# Altium footprint library IP5328P BMS.PcbLib: 19 footprints (part 1 of 2)
Each footprint in its own frame and in the unit in brackets; x right, y up, seen from the top. Pads: shape width x height; smd on the part's side, far side on the other; paste and mask are expansions set on the pad; w line width, h text height; cw(c..) or ccw(c..) is an arc to the next point about the centre after c.
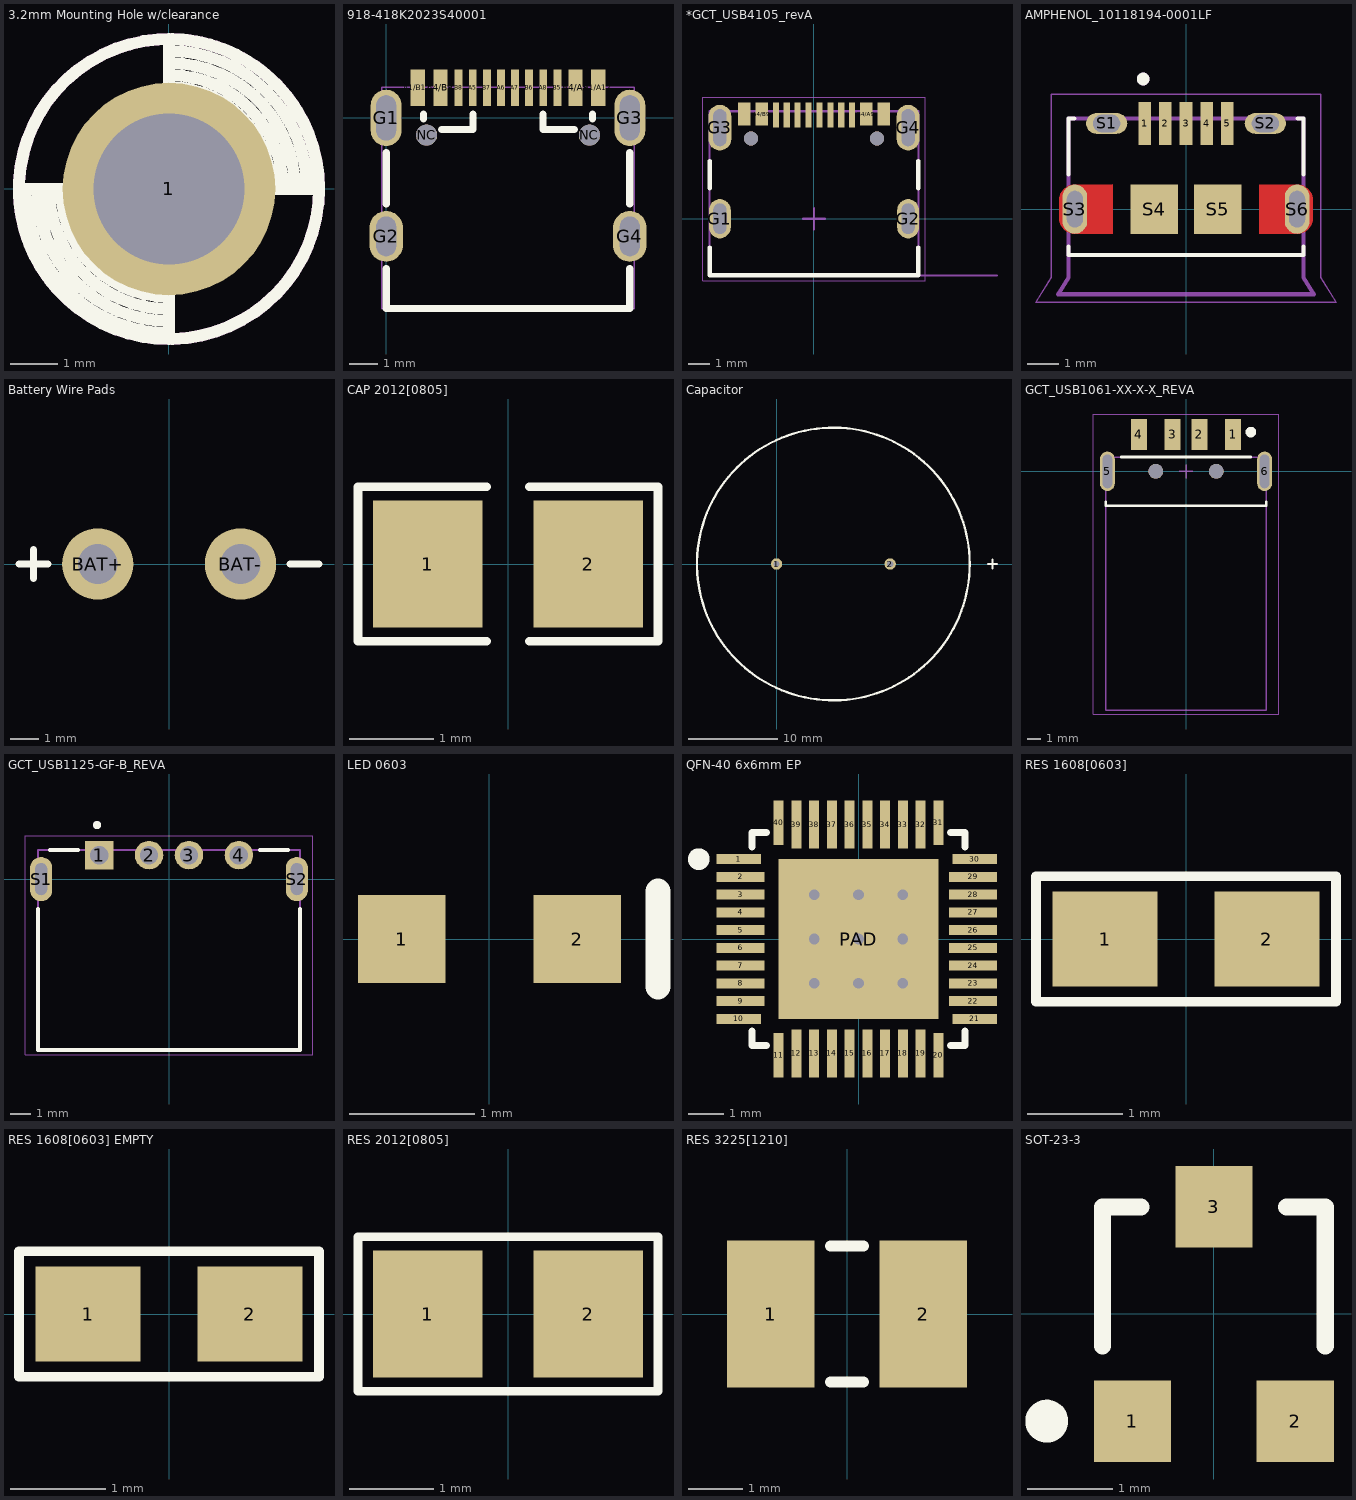
[diagram p0: the footprints below, top view; thin cyan lines are the x and y axes]

## 3.2mm Mounting Hole w/clearance [mm] "3.2mm mounting hole with 125mil clearance"
pads (1):
  round 4.5 hole 3.2: 1(0,0)
Top Overlay:
  circle w0.254: c0,0 r3.175
  lines w0.254: -3.048,0 ccw(c0,0) 0,-3.048 ; -2.794,0 ccw(c0,0) 0,-2.794 ; -2.54,0 ccw(c0,0) 0,-2.54 ; -2.286,0 ccw(c0,0) 0,-2.286 ; 0,2.159 cw(c0,0) 2.159,0 ; 0,2.413 cw(c0,0) 2.413,0 ; 0,2.667 cw(c0,0) 2.667,0 ; 0,2.921 cw(c0,0) 2.921,0 ; 0,0 3.175,0 ccw(c0,0) 0,3.175 0,0 ; 0,0 0,-3.175 cw(c0,0) -3.175,0 0,0
Bottom Overlay:
  circle w0.254: c0,0 r3.175
  lines w0.254: -3.048,0 ccw(c0,0) 0,-3.048 ; -2.794,0 ccw(c0,0) 0,-2.794 ; -2.54,0 ccw(c0,0) 0,-2.54 ; -2.286,0 ccw(c0,0) 0,-2.286 ; 0,2.159 cw(c0,0) 2.159,0 ; 0,2.413 cw(c0,0) 2.413,0 ; 0,2.667 cw(c0,0) 2.667,0 ; 0,2.921 cw(c0,0) 2.921,0 ; 0,0 0,-3.175 cw(c0,0) -3.175,0 0,0 ; 0,0 3.175,0 ccw(c0,0) 0,3.175 0,0
Keep-Out Layer:
  circle w0.254: c0,0 r3.175
  circle w0.254: c0,0 r3.175

## 918-418K2023S40001 [mm]
pads (18):
  rect 0.5x1.3 smd mask+0.051: A1/B12(1.12,1.067) A4/B9(1.92,1.067) B1/A12(7.516,1.067) B4/A9(6.716,1.067)
  rect 0.28x1.3 smd mask+0.051: A5(3.07,1.067) A6(4.07,1.067) A7(4.566,1.067) A8(5.566,1.067) B5(6.066,1.067) B6(5.066,1.067) B7(3.57,1.067) B8(2.57,1.067)
  oval 1.1x2 hole 0.7 slot 1.6 at 90 deg mask+0.051: G1(0,0) G3(8.636,0)
  oval 1.2x1.8 hole 0.7 slot 1.4 at 90 deg mask+0.051: G2(0,-4.2) G4(8.636,-4.2)
  round 0.75 hole 0.75 unplated mask+0: NC(1.43,-0.61) NC(7.206,-0.61)
Top Overlay:
  lines w0.254: 0,-5.339 0,-6.756 4.32,-6.756 ; 0,-3.048 0,-1.23 ; 1.321,-0.032 1.321,0.127 ; 1.961,-0.406 3.068,-0.406 ; 3.079,-0.394 3.079,0.127 ; 4.316,-6.756 8.636,-6.756 8.636,-5.339 ; 5.557,-0.394 5.557,0.127 ; 5.568,-0.406 6.675,-0.406 ; 7.315,-0.032 7.315,0.127 ; 8.636,-3.048 8.636,-1.23
Mechanical 15:
  lines w0.05: -0.152,-6.758 8.788,-6.758 8.788,1.092 -0.152,1.092 -0.152,-6.758

## *GCT_USB4105_revA [mm]
height 3.31
pads (18):
  rect 0.58x1.05 smd mask+0.05: A1/B12(-3.2,4.8) A4/B9(-2.4,4.8) B1/A12(3.2,4.8) B4/A9(2.4,4.8)
  rect 0.28x1.15 smd mask+0.05: A5(-1.25,4.755) A6(-0.25,4.755) A7(0.25,4.755) A8(1.25,4.755) B5(1.75,4.755) B6(0.75,4.755) B7(-0.75,4.755) B8(-1.75,4.755)
  oval 1x1.8 hole 0.6 slot 1.4 at 90 deg: G1(-4.32,0) G2(4.32,0)
  oval 1.05x2.1 hole 0.6 slot 1.7 at 90 deg: G3(-4.32,4.18) G4(4.32,4.18)
  round 0.65 hole 0.65 unplated mask+0: None(-2.89,3.68) None(2.89,3.68)
Top Overlay:
  lines w0.2: -4.79,-1.32 -4.79,-2.6 4.79,-2.6 4.79,-1.32 ; -4.79,1.4 -4.79,2.65 ; 4.79,1.4 4.79,2.65
Mechanical 13:
  lines w0.1: -4.79,-2.6 4.79,-2.6 ; -4.79,-2.6 -4.79,4.93 ; -4.79,-2.6 4.79,-2.6 ; -4.79,-2.6 -4.79,4.93 ; -4.79,4.93 4.79,4.93 ; -4.79,4.93 4.79,4.93 ; 4.79,-2.6 4.79,4.93 ; 4.79,-2.6 4.79,4.93 ; 4.8,-2.6 8.4,-2.6 4.8,-2.6
Mechanical 15:
  lines w0.05: -5.1,-2.85 -5.1,5.58 5.1,5.58 5.1,-2.85 -5.1,-2.85
  lines w0.1: -0.5,0 0.5,0 ; 0,-0.5 0,0.5
3D body "USB4105-15-A-120.stp": height 3.26, standoff -1.2, extent -4.47,-2.54 4.47,5.16

## AMPHENOL_10118194-0001LF [mm]
pads (11):
  rect 0.4x1.35 smd mask+0.05: 1(-1.3,2.7) 2(-0.65,2.7) 3(0,2.7) 4(0.65,2.7) 5(1.3,2.7)
  oval 1.3x0.65 hole 0.55 slot 0.85 at 0 deg: S1(-2.5,2.7) S2(2.5,2.7)
  oval 0.775x1.55 hole 0.5 slot 1.15 at 90 deg: S3(-3.5,0) S6(3.5,0)
  rect 1.5x1.55 smd: S4(-1,0) S5(1,0)
Top Layer:
  region: 192 vertices and 0 holes, not listed, extent 2.3,-0.78 4,0.775
  region: 192 vertices and 0 holes, not listed, extent -4,-0.775 -2.3,0.78
Top Overlay:
  circle w0.2: c-1.35,4.1 r0.1
  lines w0.127: -3.7,-1.18 -3.7,-1.45 3.7,-1.45 3.7,-1.18 ; -3.7,1.095 -3.7,2.85 -3.52,2.85 ; 3.52,2.85 3.7,2.85 3.7,1.095
Top Paste:
  drawing of 6 lines, arcs and shapes, not listed
Top Solder:
  region: 3.626,0.874 3.652,0.872 3.678,0.869 3.704,0.864 3.729,0.858 3.755,0.851 3.779,0.842 3.803,0.832 3.827,0.821 3.85,0.808 3.872,0.794 3.894,0.78 3.915,0.764 3.935,0.747 3.954,0.729 3.972,0.71 3.989,0.69 4.005,0.669 4.019,0.647 4.033,0.625 4.046,0.602 4.057,0.578 4.067,0.554 4.076,0.53 4.083,0.504 4.089,0.479 4.094,0.453 4.097,0.427 4.099,0.401 4.1,0.375 4.1,-0.375 4.099,-0.401 4.097,-0.427 4.094,-0.453 4.089,-0.479 4.083,-0.504 4.076,-0.53 4.067,-0.554 4.057,-0.578 4.046,-0.602 4.033,-0.625 4.019,-0.647 4.005,-0.669 3.989,-0.69 3.972,-0.71 3.954,-0.729 3.935,-0.747 3.915,-0.764 3.894,-0.78 3.872,-0.794 3.85,-0.808 3.827,-0.821 3.803,-0.832 3.779,-0.842 3.755,-0.851 3.729,-0.858 3.704,-0.864 3.678,-0.869 3.652,-0.872 3.626,-0.874 3.6,-0.875 2.2,-0.875 2.2,0.875 3.6,0.875
  region: -2.2,-0.875 -3.6,-0.875 -3.626,-0.874 -3.652,-0.872 -3.678,-0.869 -3.704,-0.864 -3.729,-0.858 -3.755,-0.851 -3.779,-0.842 -3.803,-0.832 -3.827,-0.821 -3.85,-0.808 -3.872,-0.794 -3.894,-0.78 -3.915,-0.764 -3.935,-0.747 -3.954,-0.729 -3.972,-0.71 -3.989,-0.69 -4.005,-0.669 -4.019,-0.647 -4.033,-0.625 -4.046,-0.602 -4.057,-0.578 -4.067,-0.554 -4.076,-0.53 -4.083,-0.504 -4.089,-0.479 -4.094,-0.453 -4.097,-0.427 -4.099,-0.401 -4.1,-0.375 -4.1,0.375 -4.099,0.401 -4.097,0.427 -4.094,0.453 -4.089,0.479 -4.083,0.504 -4.076,0.53 -4.067,0.554 -4.057,0.578 -4.046,0.602 -4.033,0.625 -4.019,0.647 -4.005,0.669 -3.989,0.69 -3.972,0.71 -3.954,0.729 -3.935,0.747 -3.915,0.764 -3.894,0.78 -3.872,0.794 -3.85,0.808 -3.827,0.821 -3.803,0.832 -3.779,0.842 -3.755,0.851 -3.729,0.858 -3.704,0.864 -3.678,0.869 -3.652,0.872 -3.626,0.874 -3.6,0.875 -2.2,0.875
Mechanical 13:
  circle w0.2: c-1.35,4.1 r0.1
  lines w0.127: -3.7,-1.45 -3.7,-2.15 -4.025,-2.68 4.025,-2.68 3.7,-2.15 3.7,-1.45 ; -3.7,-1.45 -3.7,2.85 3.7,2.85 3.7,-1.45 ; -3.7,-1.45 3.7,-1.45
  text "PCB END" at -1.95,-2.1 h0.5
Mechanical 15:
  lines w0.05: -4.725,-2.93 -4.25,-2.15 -4.25,3.625 4.25,3.625 4.25,-2.15 4.725,-2.93 -4.725,-2.93
3D body "10118194c.stp": height 2.69, standoff -0.59, extent -4.025,-2.659 4.025,2.921

## Battery Wire Pads [mm]
pads (2):
  round 2.5 hole 1.4: BAT+(-2.5,0) BAT-(2.5,0)
Top Overlay:
  lines w0.254: -5.258,0 -4.242,0 ; -4.75,-0.508 -4.75,0.508 ; 4.234,0 5.25,0

## CAP 2012[0805] [mm] "Capacitor, NP, 2012[0805]"
pads (2):
  rect 1.3x1.5 smd: 1(-0.95,0) 2(0.95,0)
Top Overlay:
  lines w0.102: -0.254,-0.914 -1.778,-0.914 -1.778,0.914 -0.254,0.914 ; 0.254,-0.914 1.778,-0.914 1.778,0.914 0.254,0.914
3D body "SW3dPS-0805 SMD Capacitor.STEP": height 0.78, standoff 0, extent -0.991,-0.635 1.009,0.615

## Capacitor [mil]
pads (2):
  round 50 hole 28: 1(0,0) 2(500,0)
Top Overlay:
  circle w10: c250,0 r600
  lines w10: 930,0 970,0 ; 950,-20 950,20

## GCT_USB1061-XX-X-X_REVA [mm]
pads (8):
  rect 1.2x2.3 smd: 1(3.5,2.75) 2(1,2.75) 3(-1,2.75) 4(-3.5,2.75)
  oval 1.1x2.95 hole 0.7 slot 2.5 at 90 deg: 5(-5.85,0) 6(5.85,0)
  round 1.1 hole 1.1 unplated mask+0.102: ""(-2.25,0) ""(2.25,0)
Top Overlay:
  circle w0.4: c4.826,2.921 r0.193
  lines w0.2: -5.969,-2.286 -5.969,-2.565 5.969,-2.565 5.969,-2.286 ; -4.826,1.067 4.826,1.067
Mechanical 13:
  lines w0.1: -5.969,-17.78 -5.969,1.066 5.969,1.067 5.969,-17.78 -5.969,-17.78
Mechanical 15:
  lines w0.05: -6.909,-18.059 -6.909,4.267 6.909,4.267 6.909,-18.059 -6.909,-18.059
  lines w0.1: -0.5,0 0.5,0 ; 0,-0.5 0,0.5
3D body "USB1061-GF-L-A.stp": height 3.09, standoff -2.85, extent -6.341,-17.879 6.35,3.401

## GCT_USB1125-GF-B_REVA [mm]
pads (6):
  rect 1.428x1.428 hole 0.92: 1(-3.5,1.2)
  round 1.428 hole 0.92: 2(-1,1.2) 3(1,1.2) 4(3.5,1.2)
  oval 1.108x2.216 hole 0.6 slot 1.6 at 90 deg: S1(-6.4,0) S2(6.4,0)
Top Overlay:
  circle w0.2: c-3.6,2.7 r0.1
  lines w0.2: -6.55,-1.5 -6.55,-8.55 6.55,-8.55 6.55,-1.5 ; -5.95,1.45 -4.55,1.45 ; 4.55,1.45 5.95,1.45
Mechanical 13:
  circle w0.2: c-3.6,2.7 r0.1
  lines w0.1: -6.55,-8.55 -6.55,1.45 6.55,1.45 6.55,-8.55 -6.55,-8.55
Mechanical 15:
  lines w0.05: -7.205,-8.8 -7.205,2.165 7.205,2.165 7.205,-8.8 -7.205,-8.8

## LED 0603 [mm] "SMT LED w/0603 footprint"
pads (2):
  rect 0.7x0.7 smd: 1(-0.7,0) 2(0.7,0)
Top Overlay:
  lines w0.203: 1.346,-0.381 1.346,0.381
3D body "LED Green SMD 0603 Würth 150060BS55040.stp": height 0.4, standoff 0, extent -0.8,-0.4 0.8,0.4

## QFN-40 6x6mm EP [mm] "6mm x 6mm QFN-40 w/exposed pad"
pads (41):
  rect 1.25x0.28 smd mask+0.05: 1(-3.375,2.25) 10(-3.375,-2.25) 21(3.275,-2.25) 30(3.275,2.25)
  rect 1.35x0.28 smd mask+0.05: 2(-3.323,1.75) 3(-3.323,1.25) 4(-3.323,0.75) 5(-3.323,0.25) 6(-3.323,-0.25) 7(-3.323,-0.75) 8(-3.323,-1.25) 9(-3.323,-1.75) 22(3.225,-1.75) 23(3.225,-1.25) 24(3.225,-0.75) 25(3.225,-0.25) 26(3.225,0.25) 27(3.225,0.75) 28(3.225,1.25) 29(3.225,1.75)
  rect 0.28x1.25 smd mask+0.05: 11(-2.25,-3.275) 20(2.25,-3.275) 31(2.25,3.275) 40(-2.25,3.275)
  rect 0.28x1.35 smd mask+0.05: 12(-1.75,-3.225) 13(-1.25,-3.225) 14(-0.75,-3.225) 15(-0.25,-3.225) 16(0.25,-3.225) 17(0.75,-3.225) 18(1.25,-3.225) 19(1.75,-3.225) 32(1.75,3.225) 33(1.25,3.225) 34(0.75,3.225) 35(0.25,3.225) 36(-0.25,3.225) 37(-0.75,3.225) 38(-1.25,3.225) 39(-1.75,3.225)
  rect 4.5x4.5 smd mask+0.07: PAD(0,0)
via 1.25,1.25 diameter 0.6 hole 0.3
via -1.25,1.25 diameter 0.6 hole 0.3
via 0,1.25 diameter 0.6 hole 0.3
via 1.25,-1.25 diameter 0.6 hole 0.3
via -1.25,-1.25 diameter 0.6 hole 0.3
via 0,-1.25 diameter 0.6 hole 0.3
via 1.25,0 diameter 0.6 hole 0.3
via -1.25,0 diameter 0.6 hole 0.3
via 0,0 diameter 0.6 hole 0.3
Top Overlay:
  circle w0.508: c-4.5,2.25 r0.05
  lines w0.203: -3,-2.6 -3,-3 -2.6,-3 ; -3,2.6 -3,3 -2.6,3 ; 2.6,-3 3,-3 3,-2.6 ; 2.6,3 3,3 3,2.6
3D body "User Library-QFN-40.STEP": height 1.04, standoff -0.01, extent -3.075,-3.075 3.075,3.075

## RES 1608[0603] [mm] "Resistor 1608[0603]"
pads (2):
  rect 1.1x1 smd: 1(-0.85,0) 2(0.85,0)
Top Overlay:
  lines w0.102: -1.575,-0.66 1.575,-0.66 1.575,0.66 -1.575,0.66 -1.575,-0.66
3D body "User Library-res0603-1.STEP": height 0.4, standoff 0, extent -0.762,-0.406 0.838,0.394

## RES 1608[0603] EMPTY [mm] "Resistor 1608[0603]"
pads (2):
  rect 1.1x1 smd: 1(-0.85,0) 2(0.85,0)
Top Overlay:
  lines w0.102: -1.575,-0.66 -1.575,0.66 1.575,0.66 1.575,-0.66 -1.575,-0.66

## RES 2012[0805] [mm] "Resistor - 2012[0805]"
pads (2):
  rect 1.3x1.5 smd: 1(-0.95,0) 2(0.95,0)
Top Overlay:
  lines w0.102: -1.778,-0.914 -1.778,0.914 1.778,0.914 1.778,-0.914 -1.778,-0.914
3D body "SW3dPS-0805 SMD Resistor.STEP": height 0.77, standoff -0.01, extent -0.975,-0.61 1.025,0.64

## RES 3225[1210] [mm] "Resistor - 3225[1210]"
pads (2):
  rect 1.6x2.7 smd: 1(-1.4,0) 2(1.4,0)
Top Overlay:
  lines w0.2: -0.3,-1.25 0.3,-1.25 ; -0.3,1.25 0.3,1.25
3D body "User Library-RESC3225X06N.STEP": height 0.55, standoff 0, extent -1.626,-1.245 1.574,1.255

## SOT-23-3 [mm] "SOT-23-3 (standard pin numbering)"
pads (3):
  rect 0.9x0.95 smd: 1(-0.95,-1.25) 2(0.95,-1.25) 3(0,1.25)
Top Overlay:
  circle w0.25: c-1.95,-1.25 r0.125
  lines w0.2: -1.3,-0.375 -1.3,1.25 -0.85,1.25 ; 0.85,1.25 1.3,1.25 1.3,-0.375
3D body "SW3DPS-SOT-23-DEFAULT.STEP": height 1.06, standoff -0.04, extent -1.5,-1.281 1.5,1.219